# EAGLE library part AP65352 (library Skoba)
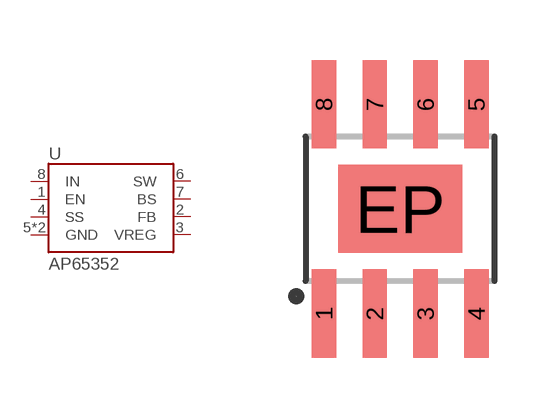
[diagram p36: symbol with the pads of SO08-EP; footprint SO08-EP]

Designator prefix U

## AP65352  [SO08-EP]
1  EN
2  FB
3  VREG
4  SS
5  GND
6  SW
7  BS
8  IN
EP  GND

## Footprint SO08-EP (pad centres in mm)
smd 0.61 x 2.21: 1 -1.905,-2.616; 2 -0.635,-2.616; 3 0.635,-2.616; 4 1.905,-2.616; 5 1.905,2.616; 6 0.635,2.616; 7 -0.635,2.616; 8 -1.905,2.616
smd 3.1 x 2.2: EP 0,0